# Altium schematic symbol library SWITCH_SMD.SchLib: 1 symbol
Pins are listed as number, name and electrical type; pins without a type are passive.

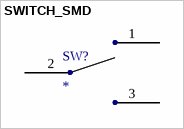
[diagram p0: symbol SWITCH_SMD]

## SWITCH_SMD
designator SW?
footprint Switch_SMD
footprint Switch_SMD
footprint SWITCH_THT
pins: 1, 2, 3